# EAGLE library part SAINSMART_2.4_TFT (library ERNW_parts)
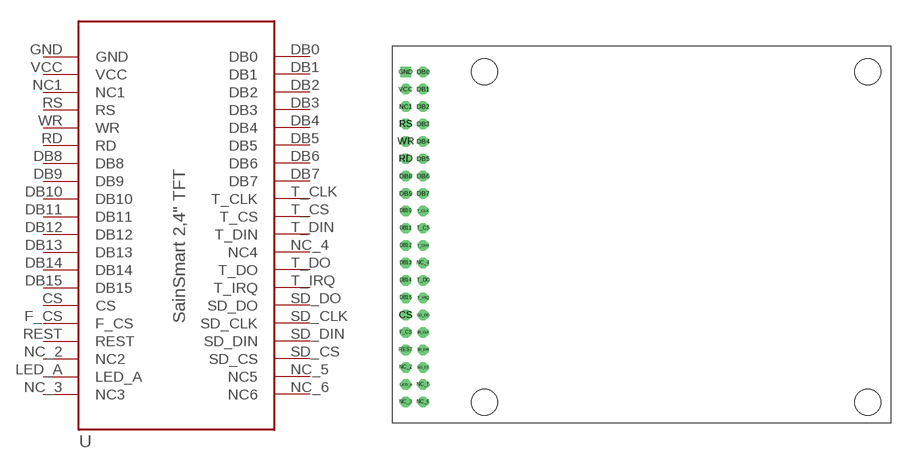
[diagram p9: symbol with the pads of SAINSMART_2.4_TFT; footprint SAINSMART_2.4_TFT]

Designator prefix -

## SAINSMART_2.4_TFT  [SAINSMART_2.4_TFT]
CS  CS
DB0  DB0
DB1  DB1
DB2  DB2
DB3  DB3
DB4  DB4
DB5  DB5
DB6  DB6
DB7  DB7
DB8  DB8
DB9  DB9
DB10  DB10
DB11  DB11
DB12  DB12
DB13  DB13
DB14  DB14
DB15  DB15
F_CS  F_CS
GND  GND
LED_A  LED_A
NC1  NC1
NC_2  NC2
NC_3  NC3
NC_4  NC4
NC_5  NC5
NC_6  NC6
RD  RD
REST  REST
RS  RS
SD_CLK  SD_CLK
SD_CS  SD_CS
SD_DIN  SD_DIN
SD_DO  SD_DO
T_CLK  T_CLK
T_CS  T_CS
T_DIN  T_DIN
T_DO  T_DO
T_IRQ  T_IRQ
VCC  VCC
WR  WR

## Footprint SAINSMART_2.4_TFT (pad centres in mm)
drill 1.02 octagon: CS 0,12.7; DB0 2.54,48.26; DB1 2.54,45.72; DB2 2.54,43.18; DB3 2.54,40.64; DB4 2.54,38.1; DB5 2.54,35.56; DB6 2.54,33.02; DB7 2.54,30.48; DB8 0,33.02; DB9 0,30.48; DB10 0,27.94; DB11 0,25.4; DB12 0,22.86; DB13 0,20.32; DB14 0,17.78; DB15 0,15.24; F_CS 0,10.16; LED_A 0,2.54; NC1 0,43.18; NC_2 0,5.08; NC_3 0,0; NC_4 2.54,20.32; NC_5 2.54,2.54; NC_6 2.54,0; RD 0,35.56; REST 0,7.62; RS 0,40.64; SD_CLK 2.54,10.16; SD_CS 2.54,5.08; SD_DIN 2.54,7.62; SD_DO 2.54,12.7; T_CLK 2.54,27.94; T_CS 2.54,25.4; T_DIN 2.54,22.86; T_DO 2.54,17.78; T_IRQ 2.54,15.24; VCC 0,45.72; WR 0,38.1
drill 1.02 square: GND 0,48.26
hole 3.8 at 11.54,0
hole 3.8 at 11.54,48.26
hole 3.8 at 67.54,48.26
hole 3.8 at 67.54,0